# Altium schematic symbol library Co-DoubleDip.SchLib: 2 symbols
Pins are listed as number, name and electrical type; pins without a type are passive.

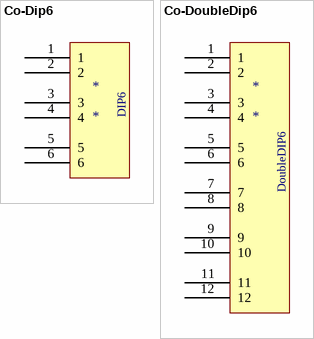
[diagram p0: symbols Co-Dip6 to Co-DoubleDip6]

## Co-Dip6
designator *
footprint DIP6
pins: 1, 2, 3, 4, 5, 6
text: DIP6

## Co-DoubleDip6
designator *
footprint DoubleDIP6
pins: 1, 2, 3, 4, 5, 6, 7, 8, 9, 10, 11, 12
text: DoubleDIP6